# Altium footprint library Mobile_adapter_5V_1A_LQ.PcbLib: 6 footprints
Each footprint in its own frame and in the unit in brackets; x right, y up, seen from the top. Pads: shape width x height; smd on the part's side, far side on the other; paste and mask are expansions set on the pad; w line width, h text height; cw(c..) or ccw(c..) is an arc to the next point about the centre after c.
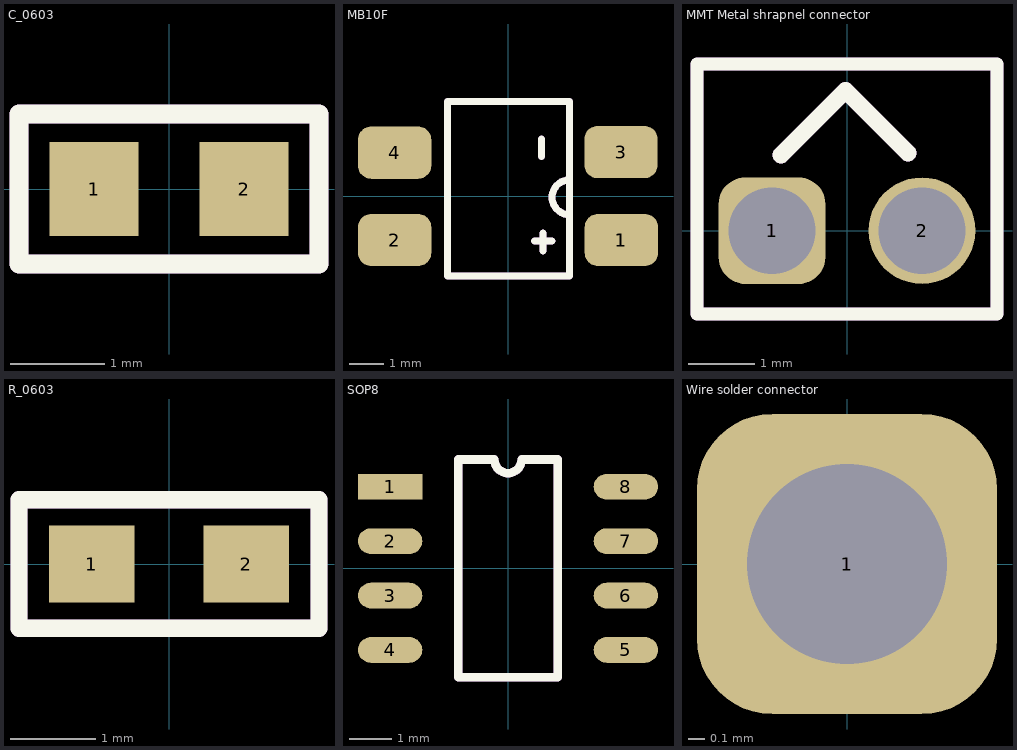
[diagram p0: the footprints below, top view; thin cyan lines are the x and y axes]

## C_0603 [mm]
pads (2):
  rect 0.95x1 smd: 1(-0.8,0) 2(0.8,0)
Top Overlay:
  lines w0.2: -1.6,-0.8 1.6,-0.8 1.6,0.8 -1.6,0.8 -1.6,-0.8
Top Assembly:
  lines w0.2: -1.6,-0.8 1.6,-0.8 1.6,0.8 -1.6,0.8 -1.6,-0.8
  text "'.Designator'" at -1.275,-0.3 h0.6
3D body "0603YC223KAT2A.STEP": height 0.82, standoff 0.01, extent -0.8,-0.45 0.8,0.45

## MB10F [mm]
pads (5):
  rrect50% 2.1x1.5 smd: 1(3.25,-1.26) 1(3.25,-1.26) 2(-3.25,-1.26) 3(3.24,1.26) 4(-3.25,1.243)
Top Overlay:
  lines w0.2: 0.765,-1.286 1.265,-1.286 ; 0.963,1.13 0.963,1.64 ; 1.001,-1.575 1.001,-1.065 ; 1.765,-0.536 cw(c1.765,-0.036) 1.765,0.464 ; -1.735,-2.286 -1.735,2.714 1.765,2.714 1.765,2.214 1.765,-2.286 -1.735,-2.286
Top Assembly:
  lines w0.2: 0.765,-1.286 1.265,-1.286 ; 0.963,1.13 0.963,1.64 ; 1.001,-1.575 1.001,-1.065 ; 1.765,-0.536 cw(c1.765,-0.036) 1.765,0.464 ; -1.735,-2.286 -1.735,2.714 1.765,2.714 1.765,2.214 1.765,-2.286 -1.735,-2.286
  text "'.Designator'" at 0.065,-2.911 h1.52
3D body "MB10F_DIO.step": height 1.81, standoff 0, extent -3.505,-2.476 3.505,2.476

## MMT Metal shrapnel connector [mm]
pads (2):
  rrect50% 1.6x1.6 hole 1.3: 1(-1.125,0)
  round 1.6 hole 1.3: 2(1.125,0)
Top Overlay:
  lines w0.2: -2.25,-1.25 -2.25,2.5 2.25,2.5 2.25,-1.25 -2.25,-1.25
  lines w0.254: -0.99,1.135 -0.025,2.1 0.913,1.162
Top Assembly:
  lines w0.2: -2.25,-1.25 -2.25,2.5 2.25,2.5 2.25,-1.25 -2.25,-1.25
  lines w0.254: -0.99,1.135 -0.025,2.1 0.913,1.162
  text "'.Designator'" at -1.9,-0.417 h0.7

## R_0603 [mm]
pads (2):
  rect 1x0.9 smd: 1(-0.9,0) 2(0.9,0)
Top Overlay:
  lines w0.2: -1.75,-0.75 -1.75,0.75 1.75,0.75 1.75,-0.75 -1.75,-0.75
Top Assembly:
  lines w0.2: -1.75,-0.75 -1.75,0.75 1.75,0.75 1.75,-0.75 -1.75,-0.75
  text "'.Designator'" at -1.4,-0.167 h0.7
3D body "RC0603JR-070RL--3DModel-STEP-510211.STEP": height 0.56, standoff 0.01, extent -0.8,-0.4 0.8,0.4

## SOP8 [mm]
pads (8):
  rect 1.5x0.6 smd: 1(-2.75,1.905)
  oval 1.5x0.6 smd: 2(-2.75,0.635) 3(-2.75,-0.635) 4(-2.75,-1.905) 5(2.75,-1.905) 6(2.75,-0.635) 7(2.75,0.635) 8(2.75,1.905)
Top Overlay:
  lines w0.2: -1.165,-2.54 -1.165,2.54 -0.318,2.54 ccw(c0,2.54) 0.318,2.54 1.165,2.54 1.165,-2.54 -1.165,-2.54
Top Assembly:
  lines w0.2: -1.165,-2.54 -1.165,2.54 -0.318,2.54 ccw(c0,2.54) 0.318,2.54 1.165,2.54 1.165,-2.54 -1.165,-2.54
  text "'.Designator'" at 0.671,-2.45 h1.52
3D body "SOP-8.STEP": height 1.87, standoff 0, extent -3.066,-2.5 3.154,2.5

## Wire solder connector [mm]
pads (1):
  rrect50% 1.8x1.8 hole 1.2: 1(0,0)